# Altium footprint library Shield_63.8x35.7x3.0x0.3.PcbLib: 1 footprints
Each footprint in its own frame and in the unit in brackets; x right, y up, seen from the top. Pads: shape width x height; smd on the part's side, far side on the other; paste and mask are expansions set on the pad; w line width, h text height; cw(c..) or ccw(c..) is an arc to the next point about the centre after c.

## Shield_63.8x35.7x3.0x0.3 [mm]
3D body "Shield.STEP": height 3, standoff 0, extent -31.875,-17.8 31.875,17.8